# EAGLE library part BA3528/9AFP (library Audio-Power-amplifier)
Pre / power amplifier and motor governor for 3V headphone stereos
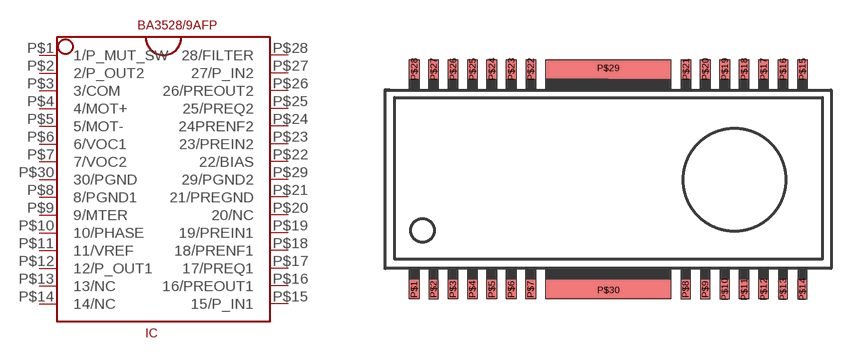
[diagram p45: symbol with the pads of HSOP28; footprint HSOP28]

Designator prefix IC

## BA3528/9AFP  [HSOP28]
P$1  1/P_MUT_SW
P$2  2/P_OUT2  out
P$3  3/COM
P$4  4/MOT+  out
P$5  5/MOT-  out
P$6  6/VOC1  pwr
P$7  7/VOC2  pwr
P$8  8/PGND1  pwr
P$9  9/MTER
P$10  10/PHASE
P$11  11/VREF
P$12  12/P_OUT1  out
P$13  13/NC  nc
P$14  14/NC  nc
P$15  15/P_IN1  in
P$16  16/PREOUT1  out
P$17  17/PREQ1
P$18  18/PRENF1
P$19  19/PREIN1  in
P$20  20/NC  nc
P$21  21/PREGND  pwr
P$22  22/BIAS
P$23  23/PREIN2  in
P$24  24PRENF2
P$25  25/PREQ2
P$26  26/PREOUT2  out
P$27  27/P_IN2  in
P$28  28/FILTER
P$29  29/PGND2  pwr
P$30  30/PGND  pwr

## Footprint HSOP28 (pad centres in mm)
smd 0.406 x 0.813: P$1 -8,-4.545; P$2 -7.2,-4.545; P$3 -6.4,-4.545; P$4 -5.6,-4.545; P$5 -4.8,-4.545; P$6 -4,-4.545; P$7 -3.2,-4.545; P$8 3.19,-4.545; P$9 4,-4.545; P$10 4.795,-4.545; P$11 5.6,-4.545; P$12 6.4,-4.545; P$13 7.2,-4.545; P$14 8,-4.545; P$15 8,4.545; P$16 7.2,4.545; P$17 6.4,4.545; P$18 5.6,4.545; P$19 4.8,4.545; P$20 4,4.545; P$21 3.2,4.545; P$22 -3.2,4.545; P$23 -4,4.545; P$24 -4.8,4.545; P$25 -5.6,4.545; P$26 -6.4,4.545; P$27 -7.2,4.545; P$28 -8,4.545
smd 0.813 x 0.406: P$29 0,4.595; P$30 0.005,-4.57